# Altium footprint library SO.PcbLib: 95 footprints (part 5 of 6)
Each footprint in its own frame and in the unit in brackets; x right, y up, seen from the top. Pads: shape width x height; smd on the part's side, far side on the other; paste and mask are expansions set on the pad; w line width, h text height; cw(c..) or ccw(c..) is an arc to the next point about the centre after c.
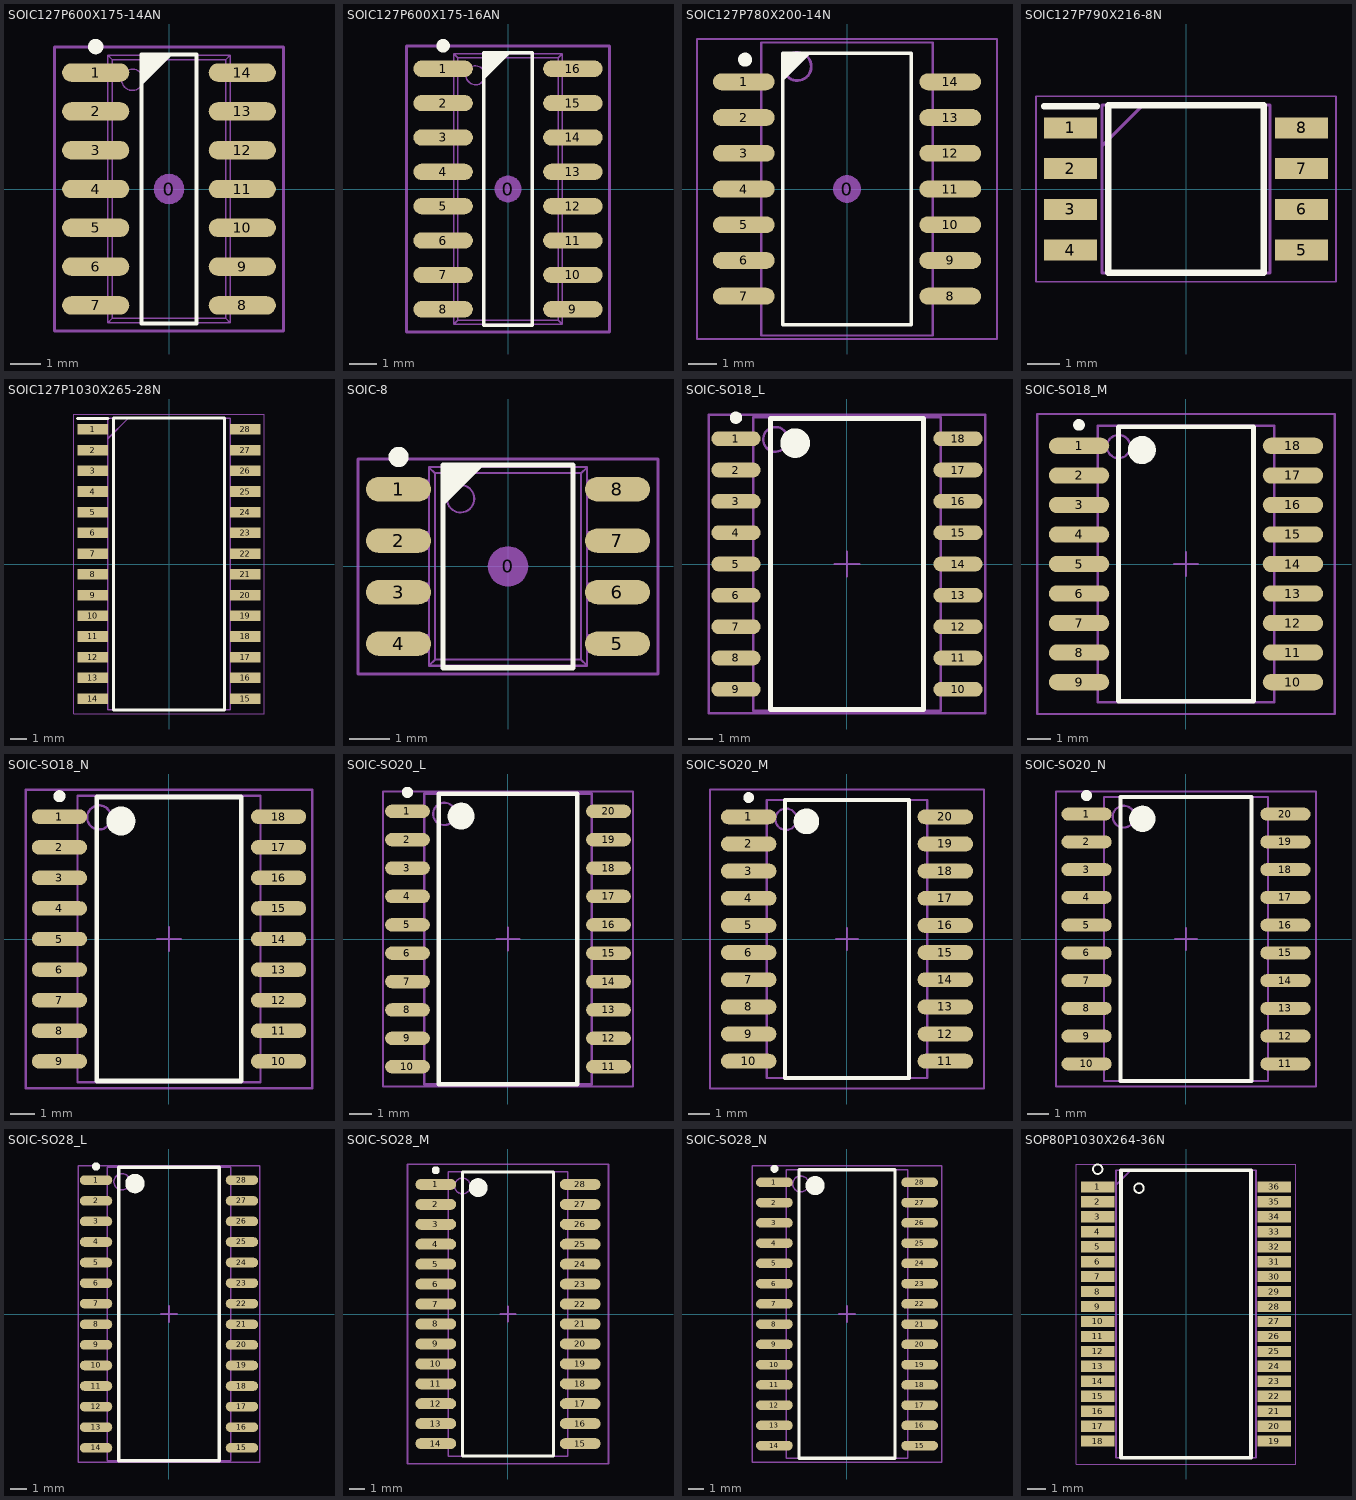
[diagram p4: the footprints below, top view; thin cyan lines are the x and y axes]

## SOIC127P600X175-14AN [mm] "SOIC, 1.27mm pitch, 14 pin, Body 8.65x3.90mm"
height 1.75
pads (15):
  round 1 on Mech15: 0(0,0)
  oval 2.2x0.6 smd: 1(-2.4,3.81) 2(-2.4,2.54) 3(-2.4,1.27) 4(-2.4,0) 5(-2.4,-1.27) 6(-2.4,-2.54) 7(-2.4,-3.81) 8(2.4,-3.81) 9(2.4,-2.54) 10(2.4,-1.27) 11(2.4,0) 12(2.4,1.27) 13(2.4,2.54) 14(2.4,3.81)
Top Overlay:
  circle w0.25: c-2.4,4.66 r0.125
  region: -0.9,4.4 0.1,4.4 -0.9,3.4
  lines w0.127: -0.9,-4.4 -0.9,4.4 0.9,4.4 0.9,-4.4 -0.9,-4.4
Mechanical 13:
  circle w0.05: c-1.2,3.575 r0.35
  lines w0.05: -2.631,-4.02 -2.631,-3.6 ; -2.631,-2.75 -2.631,-2.33 ; -2.631,-1.48 -2.631,-1.06 ; -2.631,-0.21 -2.631,0.21 ; -2.631,1.06 -2.631,1.48 ; -2.631,2.33 -2.631,2.75 ; -2.631,3.6 -2.631,4.02 ; -2.543,-4.02 -2.543,-3.6 ; -2.543,-2.75 -2.543,-2.33 ; -2.543,-1.48 -2.543,-1.06 ; -2.543,-0.21 -2.543,0.21 ; -2.543,1.06 -2.543,1.48 ; -2.543,2.33 -2.543,2.75 ; -2.543,3.6 -2.543,4.02 ; -2.403,-4.02 -2.403,-3.6 ; -2.403,-2.75 -2.403,-2.33 ; -2.403,-1.48 -2.403,-1.06 ; -2.403,-0.21 -2.403,0.21 ; -2.403,1.06 -2.403,1.48 ; -2.403,2.33 -2.403,2.75 ; -2.403,3.6 -2.403,4.02 ; -2.113,-4.02 -2.113,-3.6 ; -2.113,-2.75 -2.113,-2.33 ; -2.113,-1.48 -2.113,-1.06 ; -2.113,-0.21 -2.113,0.21 ; -2.113,1.06 -2.113,1.48 ; -2.113,2.33 -2.113,2.75 ; -2.113,3.6 -2.113,4.02 ; -2,-4.02 -3,-4.02 -3,-3.6 -2,-3.6 ; -2,-2.75 -3,-2.75 -3,-2.33 -2,-2.33 ; -2,-1.48 -3,-1.48 -3,-1.06 -2,-1.06 ; -2,-0.21 -3,-0.21 -3,0.21 -2,0.21 ; -2,1.06 -3,1.06 -3,1.48 -2,1.48 ; -2,2.33 -3,2.33 -3,2.75 -2,2.75 ; -2,3.6 -3,3.6 -3,4.02 -2,4.02 ; 2,-4.02 3,-4.02 3,-3.6 2,-3.6 ; 2,-2.75 3,-2.75 3,-2.33 2,-2.33 ; 2,-1.48 3,-1.48 3,-1.06 2,-1.06 ; 2,-0.21 3,-0.21 3,0.21 2,0.21 ; 2,1.06 3,1.06 3,1.48 2,1.48 ; 2,2.33 3,2.33 3,2.75 2,2.75 ; 2,3.6 3,3.6 3,4.02 2,4.02 ; 2.113,-4.02 2.113,-3.6 ; 2.113,-2.75 2.113,-2.33 ; 2.113,-1.48 2.113,-1.06 ; 2.113,-0.21 2.113,0.21 ; 2.113,1.06 2.113,1.48 ; 2.113,2.33 2.113,2.75 ; 2.113,3.6 2.113,4.02 ; 2.403,-4.02 2.403,-3.6 ; 2.403,-2.75 2.403,-2.33 ; 2.403,-1.48 2.403,-1.06 ; 2.403,-0.21 2.403,0.21 ; 2.403,1.06 2.403,1.48 ; 2.403,2.33 2.403,2.75 ; 2.403,3.6 2.403,4.02 ; 2.543,-4.02 2.543,-3.6 ; 2.543,-2.75 2.543,-2.33 ; 2.543,-1.48 2.543,-1.06 ; 2.543,-0.21 2.543,0.21 ; 2.543,1.06 2.543,1.48 ; 2.543,2.33 2.543,2.75 ; 2.543,3.6 2.543,4.02 ; 2.631,-4.02 2.631,-3.6 ; 2.631,-2.75 2.631,-2.33 ; 2.631,-1.48 2.631,-1.06 ; 2.631,-0.21 2.631,0.21 ; 2.631,1.06 2.631,1.48 ; 2.631,2.33 2.631,2.75 ; 2.631,3.6 2.631,4.02 ; -2,-4.375 2,-4.375 ; -2,-4.375 -1.851,-4.226 ; -2,-4.375 -2,4.375 ; -2,4.375 2,4.375 ; -2,4.375 -1.851,4.226 ; -1.851,-4.226 -1.851,4.226 ; -1.851,-4.226 1.851,-4.226 ; -1.851,4.226 1.851,4.226 ; 1.851,-4.226 1.851,4.226 ; 1.851,-4.226 2,-4.375 ; 1.851,4.226 2,4.375 ; 2,-4.375 2,4.375
Mechanical 15:
  lines w0.1: -3.75,-4.65 -3.75,4.65 3.75,4.65 3.75,-4.65 -3.75,-4.65
3D body "SOIC127P600X175-14AN.stp": height 1.75, standoff 0, extent -3.006,-4.325 3.006,4.325

## SOIC127P600X175-16AN [mm] "SOIC, 1.27mm pitch, 16 pin, Body 9.9x3.90mm"
height 1.75
pads (17):
  round 1 on Mech15: 0(0,0)
  oval 2.2x0.6 smd: 1(-2.4,4.445) 2(-2.4,3.175) 3(-2.4,1.905) 4(-2.4,0.635) 5(-2.4,-0.635) 6(-2.4,-1.905) 7(-2.4,-3.175) 8(-2.4,-4.445) 9(2.4,-4.445) 10(2.4,-3.175) 11(2.4,-1.905) 12(2.4,-0.635) 13(2.4,0.635) 14(2.4,1.905) 15(2.4,3.175) 16(2.4,4.445)
Top Overlay:
  circle w0.25: c-2.4,5.295 r0.125
  region: -0.9,5.035 0.1,5.035 -0.9,4.035
  lines w0.127: -0.9,-5.035 0.9,-5.035 0.9,5.035 -0.9,5.035 -0.9,-5.035
Mechanical 13:
  circle w0.05: c-1.2,4.2 r0.35
  lines w0.05: -2.631,-4.655 -2.631,-4.235 ; -2.631,-3.385 -2.631,-2.965 ; -2.631,-2.115 -2.631,-1.695 ; -2.631,-0.845 -2.631,-0.425 ; -2.631,0.425 -2.631,0.845 ; -2.631,1.695 -2.631,2.115 ; -2.631,2.965 -2.631,3.385 ; -2.631,4.235 -2.631,4.655 ; -2.543,-4.655 -2.543,-4.235 ; -2.543,-3.385 -2.543,-2.965 ; -2.543,-2.115 -2.543,-1.695 ; -2.543,-0.845 -2.543,-0.425 ; -2.543,0.425 -2.543,0.845 ; -2.543,1.695 -2.543,2.115 ; -2.543,2.965 -2.543,3.385 ; -2.543,4.235 -2.543,4.655 ; -2.403,-4.655 -2.403,-4.235 ; -2.403,-3.385 -2.403,-2.965 ; -2.403,-2.115 -2.403,-1.695 ; -2.403,-0.845 -2.403,-0.425 ; -2.403,0.425 -2.403,0.845 ; -2.403,1.695 -2.403,2.115 ; -2.403,2.965 -2.403,3.385 ; -2.403,4.235 -2.403,4.655 ; -2.113,-4.655 -2.113,-4.235 ; -2.113,-3.385 -2.113,-2.965 ; -2.113,-2.115 -2.113,-1.695 ; -2.113,-0.845 -2.113,-0.425 ; -2.113,0.425 -2.113,0.845 ; -2.113,1.695 -2.113,2.115 ; -2.113,2.965 -2.113,3.385 ; -2.113,4.235 -2.113,4.655 ; -2,-4.655 -3,-4.655 -3,-4.235 -2,-4.235 ; -2,-3.385 -3,-3.385 -3,-2.965 -2,-2.965 ; -2,-2.115 -3,-2.115 -3,-1.695 -2,-1.695 ; -2,-0.845 -3,-0.845 -3,-0.425 -2,-0.425 ; -2,0.425 -3,0.425 -3,0.845 -2,0.845 ; -2,1.695 -3,1.695 -3,2.115 -2,2.115 ; -2,2.965 -3,2.965 -3,3.385 -2,3.385 ; -2,4.235 -3,4.235 -3,4.655 -2,4.655 ; 2,-4.655 3,-4.655 3,-4.235 2,-4.235 ; 2,-3.385 3,-3.385 3,-2.965 2,-2.965 ; 2,-2.115 3,-2.115 3,-1.695 2,-1.695 ; 2,-0.845 3,-0.845 3,-0.425 2,-0.425 ; 2,0.425 3,0.425 3,0.845 2,0.845 ; 2,1.695 3,1.695 3,2.115 2,2.115 ; 2,2.965 3,2.965 3,3.385 2,3.385 ; 2,4.235 3,4.235 3,4.655 2,4.655 ; 2.113,-4.655 2.113,-4.235 ; 2.113,-3.385 2.113,-2.965 ; 2.113,-2.115 2.113,-1.695 ; 2.113,-0.845 2.113,-0.425 ; 2.113,0.425 2.113,0.845 ; 2.113,1.695 2.113,2.115 ; 2.113,2.965 2.113,3.385 ; 2.113,4.235 2.113,4.655 ; 2.403,-4.655 2.403,-4.235 ; 2.403,-3.385 2.403,-2.965 ; 2.403,-2.115 2.403,-1.695 ; 2.403,-0.845 2.403,-0.425 ; 2.403,0.425 2.403,0.845 ; 2.403,1.695 2.403,2.115 ; 2.403,2.965 2.403,3.385 ; 2.403,4.235 2.403,4.655 ; 2.543,-4.655 2.543,-4.235 ; 2.543,-3.385 2.543,-2.965 ; 2.543,-2.115 2.543,-1.695 ; 2.543,-0.845 2.543,-0.425 ; 2.543,0.425 2.543,0.845 ; 2.543,1.695 2.543,2.115 ; 2.543,2.965 2.543,3.385 ; 2.543,4.235 2.543,4.655 ; 2.631,-4.655 2.631,-4.235 ; 2.631,-3.385 2.631,-2.965 ; 2.631,-2.115 2.631,-1.695 ; 2.631,-0.845 2.631,-0.425 ; 2.631,0.425 2.631,0.845 ; 2.631,1.695 2.631,2.115 ; 2.631,2.965 2.631,3.385 ; 2.631,4.235 2.631,4.655 ; -2,-5 2,-5 ; -2,-5 -1.851,-4.851 ; -2,-5 -2,5 ; -2,5 2,5 ; -2,5 -1.851,4.851 ; -1.851,-4.851 -1.851,4.851 ; -1.851,-4.851 1.851,-4.851 ; -1.851,4.851 1.851,4.851 ; 1.851,-4.851 1.851,4.851 ; 1.851,-4.851 2,-5 ; 1.851,4.851 2,5 ; 2,-5 2,5
Mechanical 15:
  lines w0.1: -3.75,-5.285 3.75,-5.285 3.75,5.285 -3.75,5.285 -3.75,-5.285
3D body "SOIC-16.STEP": height 1.75, standoff 0, extent -3,-5 3,5

## SOIC127P780X200-14N [mm] "SOIC, 14 Leads, Body 10.5x5.3mm, Pitch 1.27mm, IPC Medium Density"
height 2
pads (15):
  round 1 on Mech15: 0(0,0)
  oval 2.2x0.6 smd: 1(-3.67,3.81) 2(-3.67,2.54) 3(-3.67,1.27) 4(-3.67,0) 5(-3.67,-1.27) 6(-3.67,-2.54) 7(-3.67,-3.81) 8(3.67,-3.81) 9(3.67,-2.54) 10(3.67,-1.27) 11(3.67,0) 12(3.67,1.27) 13(3.67,2.54) 14(3.67,3.81)
Top Overlay:
  circle w0.25: c-3.625,4.6 r0.125
  region: -2.286,4.826 -1.286,4.826 -2.286,3.826
  lines w0.127: -2.286,-4.826 2.286,-4.826 2.286,4.826 -2.286,4.826 -2.286,-4.826
Mechanical 13:
  circle w0.1: c-1.77,4.355 r0.5
  lines w0.076: -3.048,-5.207 3.048,-5.207 3.048,5.207 -3.048,5.207 -3.048,-5.207
Mechanical 15:
  lines w0.076: -5.334,-5.334 5.334,-5.334 5.334,5.334 -5.334,5.334 -5.334,-5.334
3D body "SOIC-14.stp": height 2, standoff 0, extent -3.904,-5.25 3.904,5.25

## SOIC127P790X216-8N [mm]
pads (8):
  rect 1.65x0.65 smd: 1(-3.6,1.905) 2(-3.6,0.635) 3(-3.6,-0.635) 4(-3.6,-1.905) 5(3.6,-1.905) 6(3.6,-0.635) 7(3.6,0.635) 8(3.6,1.905)
Top Overlay:
  lines w0.2: -4.425,2.58 -2.775,2.58 ; -2.425,-2.615 -2.425,2.615 2.425,2.615 2.425,-2.615 -2.425,-2.615
Mechanical 13:
  lines w0.1: -2.615,1.345 -1.345,2.615 ; -2.615,-2.615 -2.615,2.615 2.615,2.615 2.615,-2.615 -2.615,-2.615
Mechanical 15:
  lines w0.05: -4.675,-2.89 -4.675,2.89 4.675,2.89 4.675,-2.89 -4.675,-2.89
3D body "W25Q128FVSIG.stp": height 2.16, standoff 0, extent -3.95,-2.615 3.95,2.615

## SOIC127P1030X265-28N [mm]
pads (28):
  rect 1.85x0.65 smd: 1(-4.675,8.255) 2(-4.675,6.985) 3(-4.675,5.715) 4(-4.675,4.445) 5(-4.675,3.175) 6(-4.675,1.905) 7(-4.675,0.635) 8(-4.675,-0.635) 9(-4.675,-1.905) 10(-4.675,-3.175) 11(-4.675,-4.445) 12(-4.675,-5.715) 13(-4.675,-6.985) 14(-4.675,-8.255) 15(4.675,-8.255) 16(4.675,-6.985) 17(4.675,-5.715) 18(4.675,-4.445) 19(4.675,-3.175) 20(4.675,-1.905) 21(4.675,-0.635) 22(4.675,0.635) 23(4.675,1.905) 24(4.675,3.175) 25(4.675,4.445) 26(4.675,5.715) 27(4.675,6.985) 28(4.675,8.255)
Top Overlay:
  lines w0.2: -5.6,8.93 -3.75,8.93 ; -3.4,-8.95 3.4,-8.95 3.4,8.95 -3.4,8.95 -3.4,-8.95
Mechanical 13:
  lines w0.1: -3.75,7.68 -2.48,8.95 ; -3.75,-8.95 3.75,-8.95 3.75,8.95 -3.75,8.95 -3.75,-8.95
Mechanical 15:
  lines w0.05: -5.85,-9.2 5.85,-9.2 5.85,9.2 -5.85,9.2 -5.85,-9.2
3D body "MCP23017-E_SO.stp": height 2.65, standoff 0, extent -5.15,-8.95 5.15,8.95

## SOIC-8 [mm] "SOIC, 8-Leads, Body 4.9x3.9mm, Pitch 1.27mm, IPC Medium Density"
height 1.75
pads (9):
  round 1 on Mech15: 0(0,0)
  oval 1.6x0.6 smd: 1(-2.7,1.905) 2(-2.7,0.635) 3(-2.7,-0.635) 4(-2.7,-1.905) 5(2.7,-1.905) 6(2.7,-0.635) 7(2.7,0.635) 8(2.7,1.905)
Top Overlay:
  circle w0.25: c-2.7,2.7 r0.125
  region: -1.6,2.5 -0.6,2.5 -1.6,1.5
  lines w0.127: -1.6,-2.5 -1.6,2.5 1.6,2.5 1.6,-2.5 -1.6,-2.5
Mechanical 13:
  circle w0.05: c-1.17,1.67 r0.338
  lines w0.05: -2.631,-2.115 -2.631,-1.695 ; -2.631,-0.845 -2.631,-0.425 ; -2.631,0.425 -2.631,0.845 ; -2.631,1.695 -2.631,2.115 ; -2.543,-2.115 -2.543,-1.695 ; -2.543,-0.845 -2.543,-0.425 ; -2.543,0.425 -2.543,0.845 ; -2.543,1.695 -2.543,2.115 ; -2.403,-2.115 -2.403,-1.695 ; -2.403,-0.845 -2.403,-0.425 ; -2.403,0.425 -2.403,0.845 ; -2.403,1.695 -2.403,2.115 ; -2.113,-2.115 -2.113,-1.695 ; -2.113,-0.845 -2.113,-0.425 ; -2.113,0.425 -2.113,0.845 ; -2.113,1.695 -2.113,2.115 ; -1.95,-2.115 -3,-2.115 -3,-1.695 -1.95,-1.695 ; -1.95,-0.845 -3,-0.845 -3,-0.425 -1.95,-0.425 ; -1.95,0.425 -3,0.425 -3,0.845 -1.95,0.845 ; -1.95,1.695 -3,1.695 -3,2.115 -1.95,2.115 ; 1.95,-2.115 3,-2.115 3,-1.695 1.95,-1.695 ; 1.95,-0.845 3,-0.845 3,-0.425 1.95,-0.425 ; 1.95,0.425 3,0.425 3,0.845 1.95,0.845 ; 1.95,1.695 3,1.695 3,2.115 1.95,2.115 ; 2.113,-2.115 2.113,-1.695 ; 2.113,-0.845 2.113,-0.425 ; 2.113,0.425 2.113,0.845 ; 2.113,1.695 2.113,2.115 ; 2.403,-2.115 2.403,-1.695 ; 2.403,-0.845 2.403,-0.425 ; 2.403,0.425 2.403,0.845 ; 2.403,1.695 2.403,2.115 ; 2.543,-2.115 2.543,-1.695 ; 2.543,-0.845 2.543,-0.425 ; 2.543,0.425 2.543,0.845 ; 2.543,1.695 2.543,2.115 ; 2.631,-2.115 2.631,-1.695 ; 2.631,-0.845 2.631,-0.425 ; 2.631,0.425 2.631,0.845 ; 2.631,1.695 2.631,2.115 ; -1.95,-2.45 1.95,-2.45 ; -1.95,-2.45 -1.95,2.45 ; -1.95,-2.45 -1.801,-2.301 ; -1.95,2.45 -1.801,2.301 ; -1.95,2.45 1.95,2.45 ; -1.801,-2.301 1.801,-2.301 ; -1.801,-2.301 -1.801,2.301 ; -1.801,2.301 1.801,2.301 ; 1.801,-2.301 1.95,-2.45 ; 1.801,-2.301 1.801,2.301 ; 1.801,2.301 1.95,2.45 ; 1.95,-2.45 1.95,2.45
Mechanical 15:
  lines w0.076: -3.7,-2.65 -3.7,2.65 3.7,2.65 3.7,-2.65 -3.7,-2.65
3D body "SOIC-8.STEP": height 1.75, standoff 0, extent -3,-2.45 3,2.45

## SOIC-SO18_L [mm] "SOIC, 18-Leads, Body 11.5x7.5mm, Pitch 1.27mm, IPC High Density"
height 2.65
pads (18):
  oval 2x0.6 smd: 1(-4.5,5.08) 2(-4.5,3.81) 3(-4.5,2.54) 4(-4.5,1.27) 5(-4.5,0) 6(-4.5,-1.27) 7(-4.5,-2.54) 8(-4.5,-3.81) 9(-4.5,-5.08) 10(4.5,-5.08) 11(4.5,-3.81) 12(4.5,-2.54) 13(4.5,-1.27) 14(4.5,0) 15(4.5,1.27) 16(4.5,2.54) 17(4.5,3.81) 18(4.5,5.08)
Top Overlay:
  circle w0.6: c-2.1,4.9 r0.3
  circle w0.25: c-4.5,5.93 r0.125
  lines w0.2: -3.1,-5.9 3.1,-5.9 3.1,5.9 -3.1,5.9 -3.1,-5.9
Mechanical 13:
  circle w0.1: c-2.9,5.05 r0.5
  lines w0.1: -3.8,-5.95 3.8,-5.95 3.8,5.95 -3.8,5.95 -3.8,-5.95
Mechanical 15:
  lines w0.1: -0.5,0 0.5,0 ; 0,-0.5 0,0.5 ; -5.6,-6.05 5.6,-6.05 5.6,6.05 -5.6,6.05 -5.6,-6.05
3D body: height 2.65, standoff 0, extent -3.8,-5.95 3.8,5.95

## SOIC-SO18_M [mm] "SOIC, 18-Leads, Body 11.5x7.5mm, Pitch 1.27mm, IPC Low Density"
height 2.65
pads (18):
  oval 2.6x0.7 smd: 1(-4.6,5.08) 2(-4.6,3.81) 3(-4.6,2.54) 4(-4.6,1.27) 5(-4.6,0) 6(-4.6,-1.27) 7(-4.6,-2.54) 8(-4.6,-3.81) 9(-4.6,-5.08) 10(4.6,-5.08) 11(4.6,-3.81) 12(4.6,-2.54) 13(4.6,-1.27) 14(4.6,0) 15(4.6,1.27) 16(4.6,2.54) 17(4.6,3.81) 18(4.6,5.08)
Top Overlay:
  circle w0.25: c-4.6,5.98 r0.125
  circle w0.6: c-1.9,4.9 r0.3
  lines w0.2: -2.9,-5.9 -2.9,5.9 2.9,5.9 2.9,-5.9 -2.9,-5.9
Mechanical 13:
  circle w0.1: c-2.9,5.05 r0.5
  lines w0.1: -3.8,-5.95 -3.8,5.95 3.8,5.95 3.8,-5.95 -3.8,-5.95
Mechanical 15:
  lines w0.1: -0.5,0 0.5,0 ; 0,-0.5 0,0.5 ; -6.4,-6.45 -6.4,6.45 6.4,6.45 6.4,-6.45 -6.4,-6.45
3D body: height 2.65, standoff 0, extent -3.8,-5.95 3.8,5.95

## SOIC-SO18_N [mm] "SOIC, 18-Leads, Body 11.5x7.5mm, Pitch 1.27mm, IPC Medium Density"
height 2.65
pads (18):
  oval 2.3x0.6 smd: 1(-4.55,5.08) 2(-4.55,3.81) 3(-4.55,2.54) 4(-4.55,1.27) 5(-4.55,0) 6(-4.55,-1.27) 7(-4.55,-2.54) 8(-4.55,-3.81) 9(-4.55,-5.08) 10(4.55,-5.08) 11(4.55,-3.81) 12(4.55,-2.54) 13(4.55,-1.27) 14(4.55,0) 15(4.55,1.27) 16(4.55,2.54) 17(4.55,3.81) 18(4.55,5.08)
Top Overlay:
  circle w0.6: c-2,4.9 r0.3
  circle w0.25: c-4.55,5.93 r0.125
  lines w0.2: -3,-5.9 3,-5.9 3,5.9 -3,5.9 -3,-5.9
Mechanical 13:
  circle w0.1: c-2.9,5.05 r0.5
  lines w0.1: -3.8,-5.95 3.8,-5.95 3.8,5.95 -3.8,5.95 -3.8,-5.95
Mechanical 15:
  lines w0.1: -0.5,0 0.5,0 ; 0,-0.5 0,0.5 ; -5.95,-6.2 5.95,-6.2 5.95,6.2 -5.95,6.2 -5.95,-6.2
3D body: height 2.65, standoff 0, extent -3.8,-5.95 3.8,5.95

## SOIC-SO20_L [mm] "SOIC, 20-Leads, Body 12.8x7.5mm, Pitch 1.27mm, IPC High Density"
height 2.65
pads (20):
  oval 2x0.6 smd: 1(-4.5,5.715) 2(-4.5,4.445) 3(-4.5,3.175) 4(-4.5,1.905) 5(-4.5,0.635) 6(-4.5,-0.635) 7(-4.5,-1.905) 8(-4.5,-3.175) 9(-4.5,-4.445) 10(-4.5,-5.715) 11(4.5,-5.715) 12(4.5,-4.445) 13(4.5,-3.175) 14(4.5,-1.905) 15(4.5,-0.635) 16(4.5,0.635) 17(4.5,1.905) 18(4.5,3.175) 19(4.5,4.445) 20(4.5,5.715)
Top Overlay:
  circle w0.6: c-2.1,5.5 r0.3
  circle w0.25: c-4.5,6.565 r0.125
  lines w0.2: -3.1,-6.5 3.1,-6.5 3.1,6.5 -3.1,6.5 -3.1,-6.5
Mechanical 13:
  circle w0.1: c-2.85,5.6 r0.5
  lines w0.1: -3.75,-6.5 3.75,-6.5 3.75,6.5 -3.75,6.5 -3.75,-6.5
Mechanical 15:
  lines w0.1: -0.5,0 0.5,0 ; 0,-0.5 0,0.5 ; -5.6,-6.6 5.6,-6.6 5.6,6.6 -5.6,6.6 -5.6,-6.6
3D body: height 2.65, standoff 0, extent -3.75,-6.5 3.75,6.5

## SOIC-SO20_M [mm] "SOIC, 20-Leads, Body 12.8x7.5mm, Pitch 1.27mm, IPC Low Density"
height 2.65
pads (20):
  oval 2.6x0.7 smd: 1(-4.6,5.715) 2(-4.6,4.445) 3(-4.6,3.175) 4(-4.6,1.905) 5(-4.6,0.635) 6(-4.6,-0.635) 7(-4.6,-1.905) 8(-4.6,-3.175) 9(-4.6,-4.445) 10(-4.6,-5.715) 11(4.6,-5.715) 12(4.6,-4.445) 13(4.6,-3.175) 14(4.6,-1.905) 15(4.6,-0.635) 16(4.6,0.635) 17(4.6,1.905) 18(4.6,3.175) 19(4.6,4.445) 20(4.6,5.715)
Top Overlay:
  circle w0.25: c-4.6,6.615 r0.125
  circle w0.6: c-1.9,5.5 r0.3
  lines w0.2: -2.9,-6.5 -2.9,6.5 2.9,6.5 2.9,-6.5 -2.9,-6.5
Mechanical 13:
  circle w0.1: c-2.85,5.6 r0.5
  lines w0.1: -3.75,-6.5 -3.75,6.5 3.75,6.5 3.75,-6.5 -3.75,-6.5
Mechanical 15:
  lines w0.1: -0.5,0 0.5,0 ; 0,-0.5 0,0.5 ; -6.4,-7 -6.4,7 6.4,7 6.4,-7 -6.4,-7
3D body: height 2.65, standoff 0, extent -3.75,-6.5 3.75,6.5

## SOIC-SO20_N [mm] "SOIC, 20-Leads, Body 12.8x7.5mm, Pitch 1.27mm, IPC Medium Density"
height 2.65
pads (20):
  oval 2.3x0.6 smd: 1(-4.55,5.715) 2(-4.55,4.445) 3(-4.55,3.175) 4(-4.55,1.905) 5(-4.55,0.635) 6(-4.55,-0.635) 7(-4.55,-1.905) 8(-4.55,-3.175) 9(-4.55,-4.445) 10(-4.55,-5.715) 11(4.55,-5.715) 12(4.55,-4.445) 13(4.55,-3.175) 14(4.55,-1.905) 15(4.55,-0.635) 16(4.55,0.635) 17(4.55,1.905) 18(4.55,3.175) 19(4.55,4.445) 20(4.55,5.715)
Top Overlay:
  circle w0.6: c-2,5.5 r0.3
  circle w0.25: c-4.55,6.565 r0.125
  lines w0.2: -3,-6.5 3,-6.5 3,6.5 -3,6.5 -3,-6.5
Mechanical 13:
  circle w0.1: c-2.85,5.6 r0.5
  lines w0.1: -3.75,-6.5 3.75,-6.5 3.75,6.5 -3.75,6.5 -3.75,-6.5
Mechanical 15:
  lines w0.1: -0.5,0 0.5,0 ; 0,-0.5 0,0.5 ; -5.95,-6.75 5.95,-6.75 5.95,6.75 -5.95,6.75 -5.95,-6.75
3D body: height 2.65, standoff 0, extent -3.75,-6.5 3.75,6.5

## SOIC-SO28_L [mm] "SOIC, 28-Leads, Body 17.9x7.5mm, Pitch 1.27mm, IPC High Density"
height 2.65
pads (28):
  oval 2x0.6 smd: 1(-4.5,8.255) 2(-4.5,6.985) 3(-4.5,5.715) 4(-4.5,4.445) 5(-4.5,3.175) 6(-4.5,1.905) 7(-4.5,0.635) 8(-4.5,-0.635) 9(-4.5,-1.905) 10(-4.5,-3.175) 11(-4.5,-4.445) 12(-4.5,-5.715) 13(-4.5,-6.985) 14(-4.5,-8.255) 15(4.5,-8.255) 16(4.5,-6.985) 17(4.5,-5.715) 18(4.5,-4.445) 19(4.5,-3.175) 20(4.5,-1.905) 21(4.5,-0.635) 22(4.5,0.635) 23(4.5,1.905) 24(4.5,3.175) 25(4.5,4.445) 26(4.5,5.715) 27(4.5,6.985) 28(4.5,8.255)
Top Overlay:
  circle w0.25: c-4.5,9.105 r0.125
  circle w0.6: c-2.1,8.05 r0.3
  lines w0.2: -3.1,-9.05 -3.1,9.05 3.1,9.05 3.1,-9.05 -3.1,-9.05
Mechanical 13:
  circle w0.1: c-2.9,8.155 r0.5
  lines w0.1: -3.8,-9.055 -3.8,9.055 3.8,9.055 3.8,-9.055 -3.8,-9.055
Mechanical 15:
  lines w0.1: -0.5,0 0.5,0 ; 0,-0.5 0,0.5 ; -5.6,-9.15 -5.6,9.15 5.6,9.15 5.6,-9.15 -5.6,-9.15
3D body: height 2.65, standoff 0, extent -3.8,-9.055 3.8,9.055

## SOIC-SO28_M [mm] "SOIC, 28-Leads, Body 17.9x7.5mm, Pitch 1.27mm, IPC Low Density"
height 2.65
pads (28):
  oval 2.6x0.7 smd: 1(-4.6,8.255) 2(-4.6,6.985) 3(-4.6,5.715) 4(-4.6,4.445) 5(-4.6,3.175) 6(-4.6,1.905) 7(-4.6,0.635) 8(-4.6,-0.635) 9(-4.6,-1.905) 10(-4.6,-3.175) 11(-4.6,-4.445) 12(-4.6,-5.715) 13(-4.6,-6.985) 14(-4.6,-8.255) 15(4.6,-8.255) 16(4.6,-6.985) 17(4.6,-5.715) 18(4.6,-4.445) 19(4.6,-3.175) 20(4.6,-1.905) 21(4.6,-0.635) 22(4.6,0.635) 23(4.6,1.905) 24(4.6,3.175) 25(4.6,4.445) 26(4.6,5.715) 27(4.6,6.985) 28(4.6,8.255)
Top Overlay:
  circle w0.6: c-1.9,8.05 r0.3
  circle w0.25: c-4.6,9.155 r0.125
  lines w0.2: -2.9,-9.05 2.9,-9.05 2.9,9.05 -2.9,9.05 -2.9,-9.05
Mechanical 13:
  circle w0.1: c-2.9,8.155 r0.5
  lines w0.1: -3.8,-9.055 3.8,-9.055 3.8,9.055 -3.8,9.055 -3.8,-9.055
Mechanical 15:
  lines w0.1: -0.5,0 0.5,0 ; 0,-0.5 0,0.5 ; -6.4,-9.55 6.4,-9.55 6.4,9.55 -6.4,9.55 -6.4,-9.55
3D body: height 2.65, standoff 0, extent -3.8,-9.055 3.8,9.055

## SOIC-SO28_N [mm] "SOIC, 28-Leads, Body 17.9x7.5mm, Pitch 1.27mm, IPC Medium Density"
height 2.65
pads (28):
  oval 2.3x0.6 smd: 1(-4.55,8.255) 2(-4.55,6.985) 3(-4.55,5.715) 4(-4.55,4.445) 5(-4.55,3.175) 6(-4.55,1.905) 7(-4.55,0.635) 8(-4.55,-0.635) 9(-4.55,-1.905) 10(-4.55,-3.175) 11(-4.55,-4.445) 12(-4.55,-5.715) 13(-4.55,-6.985) 14(-4.55,-8.255) 15(4.55,-8.255) 16(4.55,-6.985) 17(4.55,-5.715) 18(4.55,-4.445) 19(4.55,-3.175) 20(4.55,-1.905) 21(4.55,-0.635) 22(4.55,0.635) 23(4.55,1.905) 24(4.55,3.175) 25(4.55,4.445) 26(4.55,5.715) 27(4.55,6.985) 28(4.55,8.255)
Top Overlay:
  circle w0.6: c-2,8.05 r0.3
  circle w0.25: c-4.55,9.105 r0.125
  lines w0.2: -3,-9.05 3,-9.05 3,9.05 -3,9.05 -3,-9.05
Mechanical 13:
  circle w0.1: c-2.9,8.155 r0.5
  lines w0.1: -3.8,-9.055 3.8,-9.055 3.8,9.055 -3.8,9.055 -3.8,-9.055
Mechanical 15:
  lines w0.1: -0.5,0 0.5,0 ; 0,-0.5 0,0.5 ; -5.95,-9.3 5.95,-9.3 5.95,9.3 -5.95,9.3 -5.95,-9.3
3D body: height 2.65, standoff 0, extent -3.8,-9.055 3.8,9.055

## SOP80P1030X264-36N [mm]
pads (36):
  rect 1.8x0.6 smd: 1(-4.725,6.8) 2(-4.725,6) 3(-4.725,5.2) 4(-4.725,4.4) 5(-4.725,3.6) 6(-4.725,2.8) 7(-4.725,2) 8(-4.725,1.2) 9(-4.725,0.4) 10(-4.725,-0.4) 11(-4.725,-1.2) 12(-4.725,-2) 13(-4.725,-2.8) 14(-4.725,-3.6) 15(-4.725,-4.4) 16(-4.725,-5.2) 17(-4.725,-6) 18(-4.725,-6.8) 19(4.725,-6.8) 20(4.725,-6) 21(4.725,-5.2) 22(4.725,-4.4) 23(4.725,-3.6) 24(4.725,-2.8) 25(4.725,-2) 26(4.725,-1.2) 27(4.725,-0.4) 28(4.725,0.4) 29(4.725,1.2) 30(4.725,2) 31(4.725,2.8) 32(4.725,3.6) 33(4.725,4.4) 34(4.725,5.2) 35(4.725,6) 36(4.725,6.8)
Top Overlay:
  circle w0.1: c-2.515,6.731 r0.254
  circle w0.1: c-4.724,7.747 r0.254
  lines w0.2: -3.475,-7.688 -3.475,7.688 3.475,7.688 3.475,-7.688 -3.475,-7.688
Mechanical 13:
  lines w0.1: -3.75,6.888 -2.95,7.688 ; -3.75,-7.688 -3.75,7.688 3.75,7.688 3.75,-7.688 -3.75,-7.688
Mechanical 15:
  lines w0.05: -5.875,-8.025 -5.875,8.025 5.875,8.025 5.875,-8.025 -5.875,-8.025
3D body "MAX7301AAX+.stp": height 2.64, standoff 0, extent -5.152,-7.687 5.153,7.688